# Altium footprint library CC2530CC2531CC2540CC2541pcb封装.PcbLib: 61 footprints (part 3 of 4)
Each footprint in its own frame and in the unit in brackets; x right, y up, seen from the top. Pads: shape width x height; smd on the part's side, far side on the other; paste and mask are expansions set on the pad; w line width, h text height; cw(c..) or ccw(c..) is an arc to the next point about the centre after c.
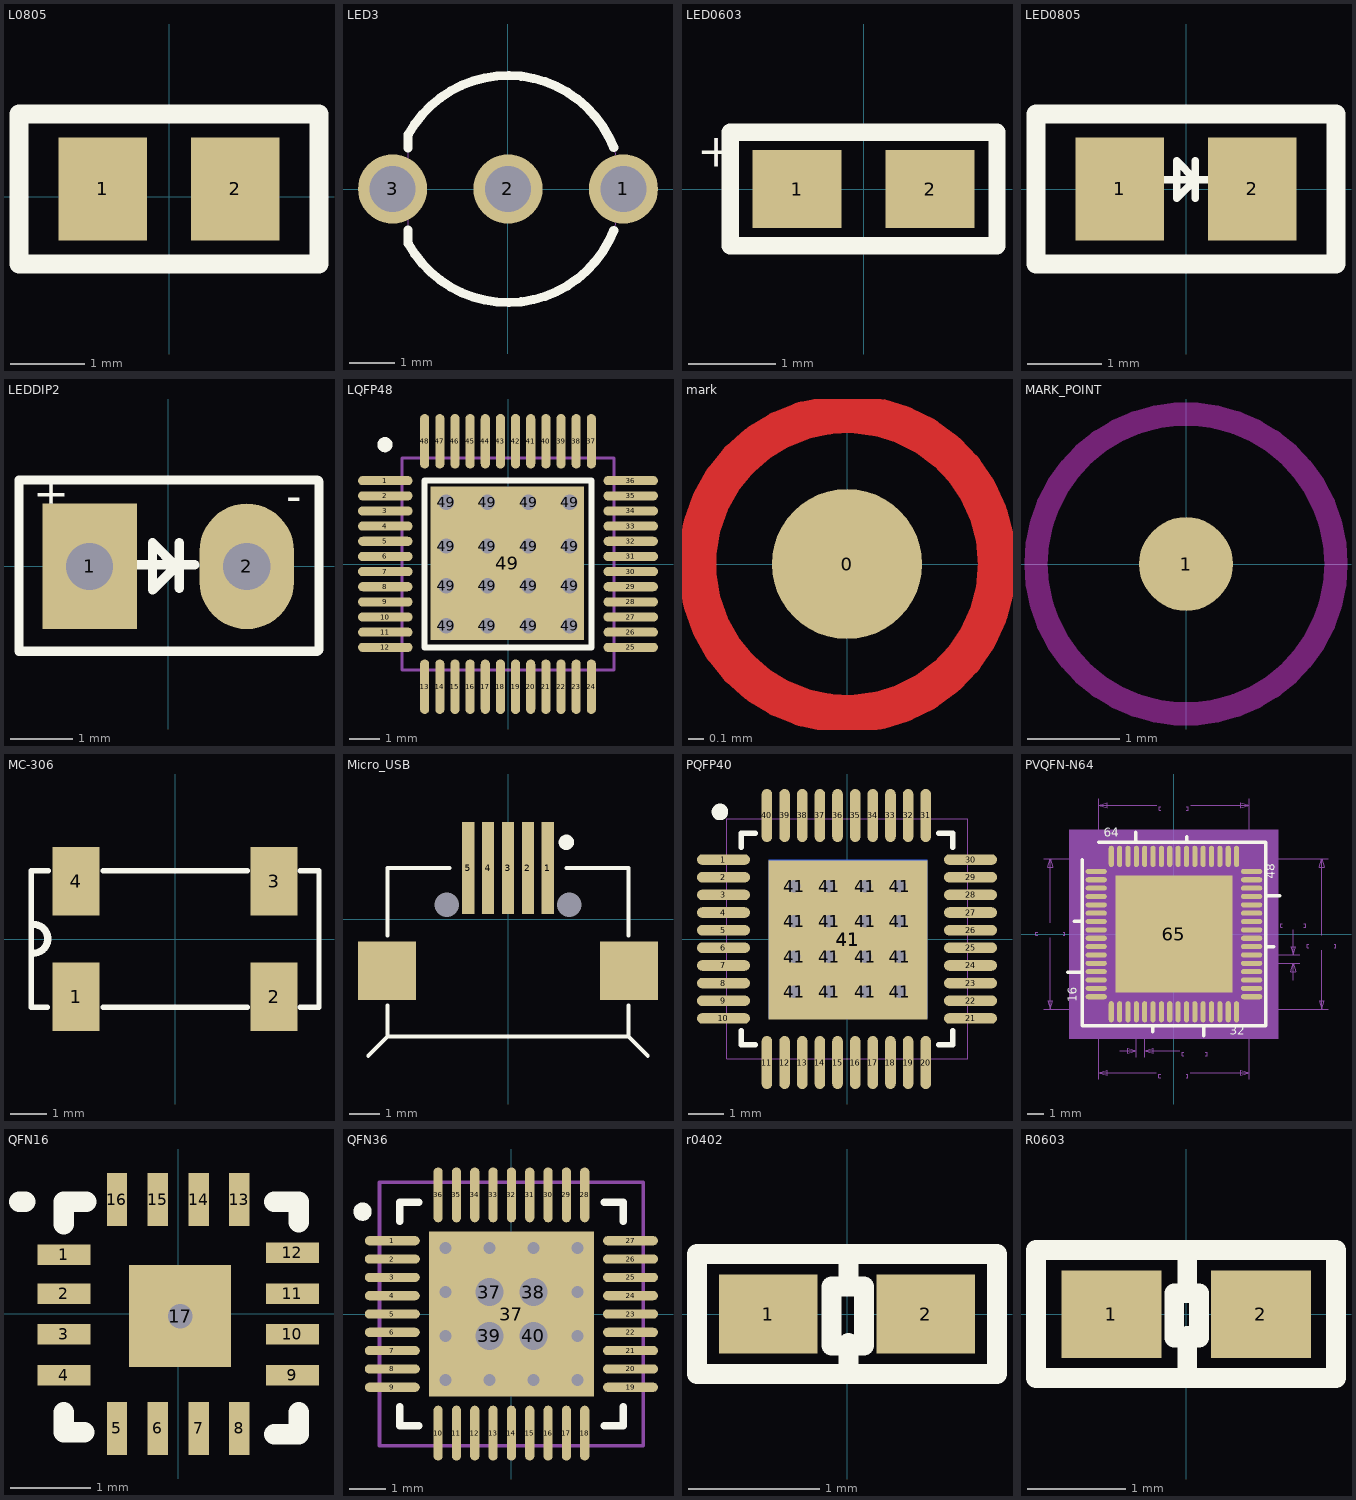
[diagram p2: the footprints below, top view; thin cyan lines are the x and y axes]

## L0805 [mm]
pads (2):
  rect 1.2x1.4 smd: 1(-0.9,0.102) 2(0.9,0.102)
Top Overlay:
  lines w0.254: -2.032,-0.914 2.032,-0.914 2.032,1.118 -2.032,1.118 -2.032,-0.914

## LED3 [mil]
pads (3):
  round 60 hole 40: 1(100,0) 2(0,0) 3(-100,0)
Top Overlay:
  lines w7.87: -86.61,-47.24 -86.61,-35.43 ; -86.61,35.43 -86.61,47.24 ; -86.41,-47.13 ccw(c0,0) 91.66,-35.87 ; -86.41,47.13 cw(c0,0) 91.66,35.87
Mechanical 10:
  lines w1: -86.61,-47.24 -86.61,47.24 ; -86.41,-47.13 ccw(c0,0) 98.43,0 ccw(c0,0) -86.41,47.13

## LED0603 [mil]
pads (2):
  rect 40x35 smd: 1(-29.92,0) 2(29.92,0)
Top Overlay:
  lines w7.87: -60,-25.59 -60,25.59 60,25.59 60,-25.59 -60,-25.59
  text "+" at -75,10 h15

## LED0805 [mm]
pads (2):
  rect 1.2x1.4 smd: 1(-0.9,0) 2(0.9,0)
Top Overlay:
  lines w0.102: 0.127,-0.127 0.127,0.381 ; 0.381,0.127 -0.381,0.127 -0.127,0.127 0.127,0.127 ; 0.127,0.127 -0.127,0.381 -0.127,-0.127 0.127,0.127
  lines w0.254: -2.032,-1.016 2.032,-1.016 2.032,1.016 -2.032,1.016 -2.032,-1.016

## LEDDIP2 [mil]
pads (2):
  rect 60x80 hole 30: 1(-50,0)
  oval 60x80 hole 30: 2(50,0)
Top Overlay:
  lines w4: 7,15 7,16
  lines w6: -19,1 17,1 ; 7,-14 7,14 7,15 ; -95,-54 95,-54 96,-53 96,54 95,55 -95,55 -95,-54 ; -10,-15.01 5,0 -10,15 -10,-15.01
  text "-" at 75,35 h20
  text "+" at -86,37 h20

## LQFP48 [mm]
pads (65):
  oval 1.8x0.3 smd: 1(-4.05,2.75) 2(-4.05,2.25) 3(-4.05,1.75) 4(-4.05,1.25) 5(-4.05,0.75) 6(-4.05,0.25) 7(-4.05,-0.25) 8(-4.05,-0.75) 9(-4.05,-1.25) 10(-4.05,-1.75) 11(-4.05,-2.25) 12(-4.05,-2.75) 25(4.05,-2.75) 26(4.05,-2.25) 27(4.05,-1.75) 28(4.05,-1.25) 29(4.05,-0.75) 30(4.05,-0.25) 31(4.05,0.25) 32(4.05,0.75) 33(4.05,1.25) 34(4.05,1.75) 35(4.05,2.25) 36(4.05,2.75)
  oval 0.3x1.8 smd: 13(-2.75,-4.05) 14(-2.25,-4.05) 15(-1.75,-4.05) 16(-1.25,-4.05) 17(-0.75,-4.05) 18(-0.25,-4.05) 19(0.25,-4.05) 20(0.75,-4.05) 21(1.25,-4.05) 22(1.75,-4.05) 23(2.25,-4.05) 24(2.75,-4.05) 37(2.75,4.05) 38(2.25,4.05) 39(1.75,4.05) 40(1.25,4.05) 41(0.75,4.05) 42(0.25,4.05) 43(-0.25,4.05) 44(-0.75,4.05) 45(-1.25,4.05) 46(-1.75,4.05) 47(-2.25,4.05) 48(-2.75,4.05)
  round 0.762 hole 0.508: 49(-2.032,-2.032) 49(-2.032,-0.72) 49(-2.032,0.593) 49(-2.032,2.032) 49(-0.677,-2.032) 49(-0.677,-0.72) 49(-0.677,0.593) 49(-0.677,2.032) 49(0.677,-2.032) 49(0.677,-0.72) 49(0.677,0.593) 49(0.677,2.032) 49(2.032,-2.032) 49(2.032,-0.72) 49(2.032,0.593) 49(2.032,2.032)
  rect 5.06x5.06 smd: 49(-0.025,0.025)
Top Overlay:
  circle w0.25: c-4.062,3.937 r0.125
  lines w0.2: -2.75,-2.75 2.75,-2.75 2.75,2.75 -2.75,2.75 -2.75,-2.75
Mechanical 13:
  lines w0.1: -3.5,-3.5 3.5,-3.5 3.5,3.5 -3.5,3.5 -3.5,-3.5

## mark [mm]
pads (1):
  round 1 smd paste+0 mask+0.8: 0(0,0)
Top Layer:
  circle w0.254: c0,0 r1

## MARK_POINT [mil]
pads (1):
  round 40 all layers, no hole paste+40 mask+40: 1(0,0)
Keep-Out Layer:
  circle w10: c0,0 r64.03

## MC-306 [mm]
pads (4):
  rect 1.3x1.9 smd: 1(-2.75,-1.6) 2(2.75,-1.6) 3(2.75,1.6) 4(-2.75,1.6)
Top Overlay:
  lines w0.152: -3.556,-1.9 -4,-1.9 -4,1.9 -3.531,1.9 ; -2,-1.9 2,-1.9 ; -2,1.9 2,1.9 ; 3.48,-1.9 4,-1.9 4,1.9 3.48,1.9
  lines w0.2: -3.937,-0.394 ccw(c-3.937,0.006) -3.937,0.406

## Micro_USB [mm]
pads (9):
  rect 0.4x3 smd: 1(1.3,1.679) 2(0.65,1.679) 3(0,1.679) 4(-0.65,1.679) 5(-1.3,1.679)
  round 0 hole 0.8 unplated: MH1(2,0.471) MH2(-2,0.471)
  rect 1.9x1.9 smd: ""(-3.95,-1.679) ""(3.95,-1.679)
Top Overlay:
  circle w0.25: c1.905,2.519 r0.125
  lines w0.127: -4.567,-4.459 -3.937,-3.829 -3.937,-2.813 ; -3.937,-0.527 -3.937,1.679 ; -3.9,-3.829 3.9,-3.829 ; -3.9,1.679 -1.905,1.679 ; 1.905,1.679 3.9,1.679 ; 3.937,-2.813 3.937,-3.829 4.567,-4.459 ; 3.937,-0.527 3.937,1.679

## PQFP40 [mm]
pads (58):
  oval 1.5x0.3 smd paste+0 mask+0.051: 1(-3.5,2.25) 2(-3.5,1.75) 3(-3.5,1.25) 4(-3.5,0.75) 5(-3.5,0.25) 6(-3.5,-0.25) 7(-3.5,-0.75) 8(-3.5,-1.25) 9(-3.5,-1.75) 10(-3.5,-2.25) 21(3.5,-2.25) 22(3.5,-1.75) 23(3.5,-1.25) 24(3.5,-0.75) 25(3.5,-0.25) 26(3.5,0.25) 27(3.5,0.75) 28(3.5,1.25) 29(3.5,1.75) 30(3.5,2.25)
  oval 0.3x1.5 smd paste+0 mask+0.051: 11(-2.268,-3.5) 12(-1.768,-3.5) 13(-1.268,-3.5) 14(-0.768,-3.5) 15(-0.268,-3.5) 16(0.232,-3.5) 17(0.732,-3.5) 18(1.232,-3.5) 19(1.732,-3.5) 20(2.232,-3.5) 31(2.232,3.5) 32(1.732,3.5) 33(1.232,3.5) 34(0.732,3.5) 35(0.232,3.5) 36(-0.268,3.5) 37(-0.768,3.5) 38(-1.268,3.5) 39(-1.768,3.5) 40(-2.268,3.5)
  rect 0.762x0.762 hole 0.356 paste+0 mask+0: 41(-1.5,-1.5) 41(-1.5,-0.5) 41(-1.5,0.5) 41(-1.5,1.5) 41(-0.5,-1.5) 41(-0.5,-0.508) 41(-0.5,0.5) 41(-0.5,1.5) 41(0.516,-1.5) 41(0.516,-0.508) 41(0.516,0.5) 41(0.516,1.5) 41(1.5,-1.5) 41(1.5,-0.508) 41(1.5,0.5) 41(1.5,1.5)
  rect 4.5x4.5 smd paste+0 mask+0: 41(0.024,-0.024)
  rect 4.496x4.496 smd far side: 41(0.025,0)
Top Overlay:
  circle w0.254: c-3.6,3.6 r0.108
  lines w0.152: -3,-2.6 -3,-3 -2.6,-3 ; -3,2.6 -3,3 -2.6,3 ; 2.6,-3 3,-3 3,-2.6 ; 2.6,3 3,3 3,2.6
Mechanical 2:
  lines w0.003: -3.408,-3.4 3.422,-3.4 3.422,3.4 -3.408,3.4 -3.408,-3.4

## PVQFN-N64 [mil]
pads (65):
  oval 50x12 smd: 1(-183.17,147.64) 2(-183.17,127.95) 3(-183.17,108.27) 4(-183.17,88.58) 5(-183.17,68.9) 6(-183.17,49.21) 7(-183.17,29.53) 8(-183.17,9.84) 9(-183.17,-9.84) 10(-183.17,-29.53) 11(-183.17,-49.21) 12(-183.17,-68.9) 13(-183.17,-88.58) 14(-183.17,-108.27) 15(-183.17,-127.95) 16(-183.17,-147.64) 33(183.17,-147.64) 34(183.17,-127.95) 35(183.17,-108.27) 36(183.17,-88.58) 37(183.17,-68.9) 38(183.17,-49.21) 39(183.17,-29.53) 40(183.17,-9.84) 41(183.17,9.84) 42(183.17,29.53) 43(183.17,49.21) 44(183.17,68.9) 45(183.17,88.58) 46(183.17,108.27) 47(183.17,127.95) 48(183.17,147.64)
  oval 12x50 smd: 17(-147.64,-183.17) 18(-127.95,-183.17) 19(-108.27,-183.17) 20(-88.58,-183.17) 21(-68.9,-183.17) 22(-49.21,-183.17) 23(-29.53,-183.17) 24(-9.84,-183.17) 25(9.84,-183.17) 26(29.53,-183.17) 27(49.21,-183.17) 28(68.9,-183.17) 29(88.58,-183.17) 30(108.27,-183.17) 31(127.95,-183.17) 32(147.64,-183.17) 49(147.64,183.17) 50(127.95,183.17) 51(108.27,183.17) 52(88.58,183.17) 53(68.9,183.17) 54(49.21,183.17) 55(29.53,183.17) 56(9.84,183.17) 57(-9.84,183.17) 58(-29.53,183.17) 59(-49.21,183.17) 60(-68.9,183.17) 61(-88.58,183.17) 62(-108.27,183.17) 63(-127.95,183.17) 64(-147.64,183.17)
  rect 275.59x275.59 smd: 65(0,0)
Top Overlay:
  lines w8: -250,-90 -216.54,-90 ; -235,30 -216.54,30 ; -216.54,175 -216.54,-216.54 216,-216.54 ; -177.17,216.54 216.54,216.54 216.54,-216.54 ; -90,218 -90,240 ; -50,-230 -50,-216.54 ; 30,216.54 30,230 ; 70,-240 70,-216.54 ; 216.54,-30 235,-30 ; 218,90 250,90
  text "32" at 132,-244 h35
  text "64" at -165,222 h35
  text "48" at 245,130 h35
  text "16" at -222,-161 h35
Mechanical 32:
  pour cut-out: -204.71,150 -205.87,155.85 -209.19,160.81 -214.15,164.13 -220,165.29 -225.85,164.13 -230.81,160.81 -234.13,155.85 -235.29,150 -234.13,144.15 -230.81,139.19 -225.85,135.87 -220,134.71 -214.15,135.87 -209.19,139.19 -205.87,144.15
  region: 185.29,-246.17 -246.17,-246.17 -246.17,185.29 -246.17,246.17 -185.29,246.17 246.17,246.17 246.17,-185 246,-185.17 246,-246.17
  lines w1: -321.15,-3.27 -325.08,-3.27 -325.08,4.61 -321.15,4.61 ; -306.83,-177.17 -192.91,-177.17 ; -306.83,177.17 -192.91,177.17 ; -291.09,-9.17 -291.09,-177.17 ; -291.09,26.26 -291.09,177.17 ; -261.03,-3.27 -257.09,-3.27 -257.09,4.61 -261.03,4.61 ; -177.17,-342.43 -177.17,-163.39 ; -177.17,192.91 -177.17,319.18 ; -127.95,-274.7 -88.58,-274.7 ; -88.58,-290.44 -88.58,-192.91 ; -68.9,-290.44 -68.9,-192.91 ; -41.48,-326.68 -177.17,-326.68 ; -40.58,303.43 -177.17,303.43 ; -31.63,-338.49 -35.57,-338.49 -35.57,-330.62 -31.63,-330.62 ; -30.74,291.62 -34.67,291.62 -34.67,299.5 -30.74,299.5 ; 13.16,-274.7 -68.9,-274.7 ; 23,-286.51 19.06,-286.51 19.06,-278.63 23,-278.63 ; 28.48,-338.49 32.42,-338.49 32.42,-330.62 28.48,-330.62 ; 29.38,291.62 33.32,291.62 33.32,299.5 29.38,299.5 ; 38.33,-326.68 177.17,-326.68 ; 39.22,303.43 177.17,303.43 ; 74.24,-286.51 78.18,-286.51 78.18,-278.63 74.24,-278.63 ; 163.39,-177.17 363.74,-177.17 ; 163.39,177.17 363.74,177.17 ; 177.17,-342.43 177.17,-163.39 ; 177.17,192.91 177.17,319.18 ; 192.91,-68.9 296.52,-68.9 ; 192.91,-49.21 296.52,-49.21 ; 255.15,16.45 251.21,16.45 251.21,24.32 255.15,24.32 ; 280.77,-108.27 280.77,-68.9 ; 280.77,10.54 280.77,-49.21 ; 306.39,16.45 310.33,16.45 310.33,24.32 306.39,24.32 ; 317.93,-31.95 314,-31.95 314,-24.07 317.93,-24.07 ; 347.99,-37.85 347.99,-177.17 ; 347.99,-2.42 347.99,177.17 ; 378.05,-31.95 381.99,-31.95 381.99,-24.07 378.05,-24.07 ; -291.09,-177.17 -285.18,-157.48 -296.99,-157.48 -291.09,-177.17 ; -291.09,177.17 -296.99,157.48 -285.18,157.48 -291.09,177.17 ; -177.17,-326.68 -157.48,-332.59 -157.48,-320.78 -177.17,-326.68 ; -177.17,-177.17 -177.17,177.17 ; -177.17,-177.17 177.17,-177.17 ; -177.17,-177.17 -177.17,177.17 ; -177.17,-177.17 177.17,-177.17 ; -177.17,-177.17 -177.17,177.17 ; -177.17,-177.17 177.17,-177.17 ; -177.17,177.17 177.17,177.17 ; -177.17,177.17 177.17,177.17 ; -177.17,177.17 177.17,177.17 ; -177.17,303.43 -157.48,297.53 -157.48,309.34 -177.17,303.43 ; -88.58,-274.7 -108.27,-268.79 -108.27,-280.6 -88.58,-274.7 ; -68.9,-274.7 -49.21,-280.6 -49.21,-268.79 -68.9,-274.7 ; 177.17,-326.68 157.48,-320.78 157.48,-332.59 177.17,-326.68 ; 177.17,-177.17 177.17,177.17 ; 177.17,-177.17 177.17,177.17 ; 177.17,-177.17 177.17,177.17 ; 177.17,303.43 157.48,309.34 157.48,297.53 177.17,303.43 ; 280.77,-68.9 274.86,-88.58 286.67,-88.58 280.77,-68.9 ; 280.77,-49.21 286.67,-29.53 274.86,-29.53 280.77,-49.21 ; 347.99,-177.17 353.9,-157.48 342.09,-157.48 347.99,-177.17 ; 347.99,177.17 342.09,157.48 353.9,157.48 347.99,177.17
  text "0.5" at 35.81,-270.76 h7.87
  text "19.69" at 26.94,-286.51 h7.87
  text "0.5" at 267.96,32.2 h7.87
  text "19.69" at 259.08,16.45 h7.87
  text "9" at -4.61,307.37 h7.87
  text "354.33" at -26.8,291.62 h7.87
  text "9" at -295.02,12.48 h7.87
  text "354.33" at -317.21,-3.27 h7.87
  text "9" at -5.51,-322.74 h7.87
  text "354.33" at -27.7,-338.49 h7.87
  text "9" at 344.06,-16.2 h7.87
  text "354.33" at 321.87,-31.95 h7.87
  text "26" at 7.13,-177.17 h28
  text "27" at 26.81,-177.17 h28
  text "28" at 46.5,-177.17 h28
  text "65" at -22.4,0 h28
  text "39" at 154.77,-29.53 h28
  text "44" at 154.77,68.9 h28
  text "37" at 154.77,-68.9 h28
  text "54" at 26.81,177.17 h28
  text "10" at -199.57,-29.53 h28
  text "9" at -188.37,-9.84 h28
  text "56" at -12.56,177.17 h28
  text "43" at 154.77,49.21 h28
  text "40" at 154.77,-9.84 h28
  text "38" at 154.77,-49.21 h28
  text "32" at 125.24,-177.17 h28
  text "63" at -150.35,177.17 h28
  text "64" at -170.04,177.17 h28
  text "3" at -188.37,108.27 h28
  text "4" at -188.37,88.58 h28
  text "31" at 105.55,-177.17 h28
  text "35" at 154.77,-108.27 h28
  text "34" at 154.77,-127.95 h28
  text "51" at 85.87,177.17 h28
  text "52" at 66.18,177.17 h28
  text "24" at -32.24,-177.17 h28
  text "47" at 154.77,127.95 h28
  text "46" at 154.77,108.27 h28
  text "49" at 125.24,177.17 h28
  text "45" at 154.77,88.58 h28
  text "42" at 154.77,29.53 h28
  text "33" at 154.77,-147.64 h28
  text "48" at 154.77,147.64 h28
  text "25" at -12.56,-177.17 h28
  text "36" at 154.77,-88.58 h28
  text "41" at 154.77,9.84 h28
  text "22" at -71.61,-177.17 h28
  text "50" at 105.55,177.17 h28
  text "55" at 7.13,177.17 h28
  text "57" at -32.24,177.17 h28
  text "58" at -51.93,177.17 h28
  text "59" at -71.61,177.17 h28
  text "60" at -91.3,177.17 h28
  text "61" at -110.98,177.17 h28
  text "62" at -130.67,177.17 h28
  text "1" at -188.37,147.64 h28
  text "2" at -188.37,127.95 h28
  text "5" at -188.37,68.9 h28
  text "6" at -188.37,49.21 h28
  text "7" at -188.37,29.53 h28
  text "8" at -188.37,9.84 h28
  text "15" at -199.57,-127.95 h28
  text "18" at -150.35,-177.17 h28
  text "23" at -51.93,-177.17 h28
  text "53" at 46.5,177.17 h28
  text "21" at -91.3,-177.17 h28
  text "29" at 66.18,-177.17 h28
  text "30" at 85.87,-177.17 h28
  text "12" at -199.57,-68.9 h28
  text "13" at -199.57,-88.58 h28
  text "14" at -199.57,-108.27 h28
  text "11" at -199.57,-49.21 h28
  text "20" at -110.98,-177.17 h28
  text "19" at -130.67,-177.17 h28
  text "16" at -199.57,-147.64 h28
  text "17" at -170.04,-177.17 h28

## QFN16 [mil]
pads (17):
  rect 26x10 smd: 1(-56,29) 2(-56,10) 3(-56,-10) 4(-56,-30) 9(56,-30) 10(56,-10) 11(56,10) 12(56,30)
  rect 10x26 smd: 5(-30,-56) 6(-10,-56) 7(10,-56) 8(30,-56) 13(30,56) 14(10,56) 15(-10,56) 16(-30,56)
  rect 50x50 all layers, no hole: 17(1,-1)
via 1,-1 diameter 25 hole 12
Top Overlay:
  lines w10: -78,55 -75,55 ; -56,-48 -56,-58 -46,-58 ; -56,44 -56,55 -45,55 ; 47,-59 59,-59 59,-48 ; 47,55 59,55 59,45

## QFN36 [mm] "QFN, 36-Leads, Body 6.1x6.1mm (max), Pitch 0.50mm, IPC Medium Density"
height 0.8
pads (41):
  oval 1.5x0.25 smd: 1(-3.25,2) 2(-3.25,1.5) 3(-3.25,1) 4(-3.25,0.5) 5(-3.25,0) 6(-3.25,-0.5) 7(-3.25,-1) 8(-3.25,-1.5) 9(-3.25,-2) 19(3.25,-2) 20(3.25,-1.5) 21(3.25,-1) 22(3.25,-0.5) 23(3.25,0) 24(3.25,0.5) 25(3.25,1) 26(3.25,1.5) 27(3.25,2)
  oval 0.25x1.5 smd: 10(-2,-3.25) 11(-1.5,-3.25) 12(-1,-3.25) 13(-0.5,-3.25) 14(0,-3.25) 15(0.5,-3.25) 16(1,-3.25) 17(1.5,-3.25) 18(2,-3.25) 28(2,3.25) 29(1.5,3.25) 30(1,3.25) 31(0.5,3.25) 32(0,3.25) 33(-0.5,3.25) 34(-1,3.25) 35(-1.5,3.25) 36(-2,3.25)
  round 1.524 hole 0.762: 37(-0.6,0.6) 38(0.6,0.6) 39(-0.6,-0.6) 40(0.6,-0.6)
  rect 4.5x4.5 smd: 37(0,0)
via -1.8,1.8 diameter 0.66 hole 0.33
via -0.6,1.8 diameter 0.66 hole 0.33
via 0.6,1.8 diameter 0.66 hole 0.33
via 1.8,1.8 diameter 0.66 hole 0.33
via -1.8,0.6 diameter 0.66 hole 0.33
via 1.8,0.6 diameter 0.66 hole 0.33
via -1.8,-0.6 diameter 0.66 hole 0.33
via 1.8,-0.6 diameter 0.66 hole 0.33
via -1.8,-1.8 diameter 0.66 hole 0.33
via -0.6,-1.8 diameter 0.66 hole 0.33
via 0.6,-1.8 diameter 0.66 hole 0.33
via 1.8,-1.8 diameter 0.66 hole 0.33
Top Overlay:
  circle w0.25: c-4.062,2.794 r0.125
  lines w0.2: -3.05,-2.525 -3.05,-3.05 -2.525,-3.05 ; -3.05,2.525 -3.05,3.05 -2.525,3.05 ; 2.525,-3.05 3.05,-3.05 3.05,-2.525 ; 2.525,3.05 3.05,3.05 3.05,2.525
Mechanical 15:
  lines w0.1: -0.5,0 0.5,0 ; 0,-0.5 0,0.5 ; -3.6,-3.6 -3.6,3.6 3.6,3.6 3.6,-3.6 -3.6,-3.6

## r0402 [mm]
pads (2):
  rect 0.75x0.6 smd: 1(-0.6,0) 2(0.6,0)
Top Overlay:
  lines w0.152: 0.01,-0.457 0.01,-0.22 ; 0.01,0.24 0.01,0.457 ; -1.143,-0.457 1.143,-0.457 1.143,0.457 -1.143,0.457 -1.143,-0.457 ; -0.12,-0.24 0.13,-0.24 0.13,0.21 -0.12,0.21 -0.12,-0.24

## R0603 [mil]
pads (2):
  rect 40x35 smd: 1(-29.92,0) 2(29.92,0)
Top Overlay:
  lines w7.87: 0.39,-21.65 0.39,-8.66 ; 0.39,9.45 0.39,21.65 ; -60.07,-25.59 59.93,-25.59 59.93,25.59 -60.07,25.59 -60.07,-25.59 ; -4.72,-9.45 -4.72,8.27 5.12,8.27 5.12,-9.45 -4.72,-9.45